# EAGLE library part ARDUINO_UNO (library E14_Arduino_revB)
Device for representing an Arduino Uno board with a footprint in an EAGLE design. Created by Dave Young for Element14. More EAGLE documentation at: http://www.element14.com/community/community/knode/cadsoft_eagle
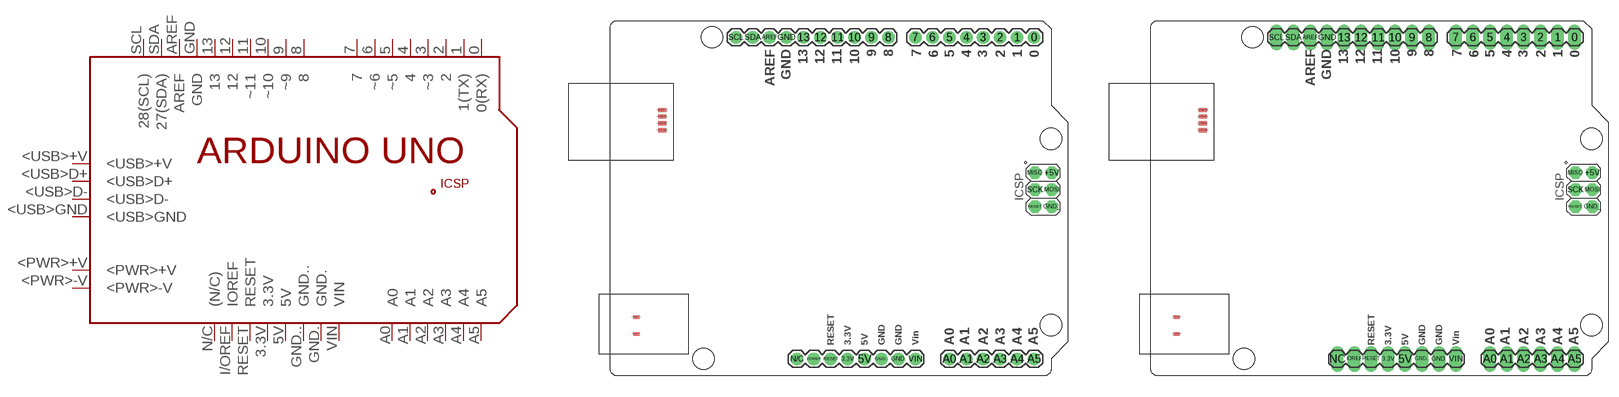
[diagram p3: symbol with the pads of ARDUINO_UNO; footprints ARDUINO_UNO, ARDUINO_UNO_M1]

Designator prefix PCB

## ARDUINO_UNO  [ARDUINO_UNO]
0  0(RX)
1  1(TX)
2  2
3  ~3
3.3V  3.3V
4  4
5  ~5
5V  5V
6  ~6
7  7
8  8
9  ~9
10  ~10
11  ~11
12  12
13  13
+5V  +5V
<PWR>+V  <PWR>+V
<PWR>-V  <PWR>-V
<USB>+V  <USB>+V
<USB>D+  <USB>D+
<USB>D-  <USB>D-
<USB>GND  <USB>GND
A0  A0
A1  A1
A2  A2
A3  A3
A4  A4
A5  A5
AREF  AREF
GND  GND
GND.  GND.
GND..  GND..
GND_  GND_
I/OREF  IOREF
MISO  MISO
MOSI  MOSI
N/C  (N/C)
RESET  RESET
RESET.  RESET.
SCK  SCK
SCL  28(SCL)
SDA  27(SDA)
VIN  VIN

## ARDUINO_UNOM1  [ARDUINO_UNO_M1]
0  0(RX)
1  1(TX)
2  2
3  ~3
3.3V  3.3V
4  4
5  ~5
5V  5V
6  ~6
7  7
8  8
9  ~9
10  ~10
11  ~11
12  12
13  13
+5V  +5V
<PWR>+V  <PWR>+V
<PWR>-V  <PWR>-V
<USB>+V  <USB>+V
<USB>D+  <USB>D+
<USB>D-  <USB>D-
<USB>GND  <USB>GND
A0  A0
A1  A1
A2  A2
A3  A3
A4  A4
A5  A5
AREF  AREF
GND  GND
GND.  GND.
GND..  GND..
GND_  GND_
IOREF  IOREF
MISO  MISO
MOSI  MOSI
NC  (N/C)
RESET  RESET
RESET.  RESET.
SCK  SCK
SCL  28(SCL)
SDA  27(SDA)
VIN  VIN

## Footprint ARDUINO_UNO (pad centres in mm)
Footprint for representing an Arduino Uno board in an EAGLE schematic. Created by Dave Young for Element14. More EAGLE documentation at: http://www.element14.com/community/community/knode/cadsoft_eagle
drill 1.016 pad 1.88: 0 63.5,50.8; 1 60.96,50.8; 2 58.42,50.8; 3 55.88,50.8; 3.3V 35.56,2.54; 4 53.34,50.8; 5 50.8,50.8; 5V 38.1,2.54; 6 48.26,50.8; 7 45.72,50.8; 8 41.656,50.8; 9 39.116,50.8; 10 36.576,50.8; 11 34.036,50.8; 12 31.496,50.8; 13 28.956,50.8; A0 50.8,2.54; A1 53.34,2.54; A2 55.88,2.54; A3 58.42,2.54; A4 60.96,2.54; A5 63.5,2.54; AREF 23.876,50.8; GND 26.416,50.8; GND. 43.18,2.54; GND.. 40.64,2.54; I/OREF 30.48,2.54; N/C 27.94,2.54; RESET 33.02,2.54; SCL 18.796,50.8; SDA 21.336,50.8; VIN 45.72,2.54
drill 1.016 pad 1.88 octagon: +5V 66.167,30.48; GND_ 66.167,25.4; MISO 63.627,30.48; MOSI 66.167,27.94; RESET. 63.627,25.4; SCK 63.627,27.94
smd 1.016 x 0.508: <PWR>+V 3.861,8.814; <PWR>-V 3.861,6.274
smd 1.27 x 0.635: <USB>+V 7.772,39.878; <USB>D+ 7.772,38.887; <USB>D- 7.772,37.871; <USB>GND 7.772,36.83
hole 3.2 at 66.04,7.62
hole 3.2 at 66.04,35.56
hole 3.2 at 15.24,50.8
hole 3.2 at 13.97,2.54

## Footprint ARDUINO_UNO_M1 (pad centres in mm)
drill 1.1 pad 1.93 long: 0 27.94,24.13; 1 25.4,24.13; 2 22.86,24.13; 3 20.32,24.13; 3.3V 0,-24.13; 4 17.78,24.13; 5 15.24,24.13; 5V 2.54,-24.13; 6 12.7,24.13; 7 10.16,24.13; 8 6.109,24.095; 9 3.569,24.095; 10 1.029,24.095; 11 -1.511,24.095; 12 -4.051,24.095; 13 -6.591,24.095; A0 15.24,-24.13; A1 17.78,-24.13; A2 20.32,-24.13; A3 22.86,-24.13; A4 25.4,-24.13; A5 27.94,-24.13; AREF -11.671,24.095; GND -9.131,24.095; GND. 7.62,-24.13; GND.. 5.08,-24.13; IOREF -5.08,-24.13; NC -7.62,-24.13; RESET -2.54,-24.13; SCL -16.751,24.095; SDA -14.211,24.095; VIN 10.16,-24.13
drill 1.016 pad 1.88 octagon: +5V 30.607,3.81; GND_ 30.607,-1.27; MISO 28.067,3.81; MOSI 30.607,1.27; RESET. 28.067,-1.27; SCK 28.067,1.27
smd 1.016 x 0.508: <PWR>+V -31.699,-17.856; <PWR>-V -31.699,-20.396
smd 1.27 x 0.635: <USB>+V -27.788,13.208; <USB>D+ -27.788,12.217; <USB>D- -27.788,11.201; <USB>GND -27.788,10.16
hole 3.2 at 30.48,-19.05
hole 3.2 at 30.48,8.89
hole 3.2 at -20.32,24.13
hole 3.2 at -21.59,-24.13